# EAGLE library part LTC6088HGNPBF (library Sonar)
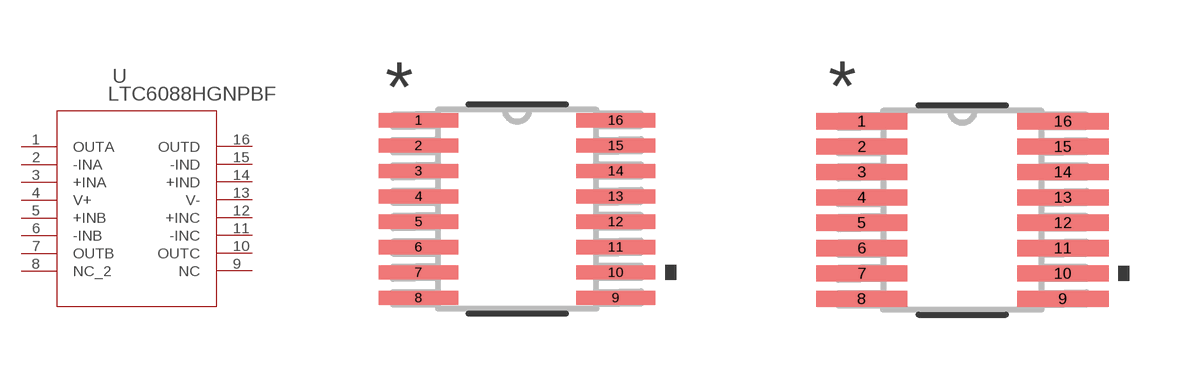
[diagram p0: symbol with the pads of SSOP-16_GN; footprints SSOP-16_GN, SSOP-16_GN-M]

Designator prefix U

## LTC6088HGNPBF (MANUFACTURER_PART_NUMBER: LTC6088HGN#PBF; VENDOR: Linear Technology)  [SSOP-16_GN]
1  OUTA  out
2  -INA  in
3  +INA  in
4  V+  pwr
5  +INB  in
6  -INB  in
7  OUTB  out
8  NC_2  nc
9  NC  nc
10  OUTC  out
11  -INC  in
12  +INC  in
13  V-  pwr
14  +IND  in
15  -IND  in
16  OUTD  out

## LTC6088HGNPBFSSOP-16_GN-M (MANUFACTURER_PART_NUMBER: LTC6088HGN#PBF; VENDOR: Linear Technology)  [SSOP-16_GN-M]
Pads as for SSOP-16_GN

## LTC6088HGNPBFSSOP-16_GN-L (MANUFACTURER_PART_NUMBER: LTC6088HGN#PBF; VENDOR: Linear Technology)  [SSOP-16_GN-L]
Pads as for SSOP-16_GN

## Footprint SSOP-16_GN (pad centres in mm)
smd 1.981 x 0.356: 1 -2.464,2.223; 2 -2.464,1.587; 3 -2.464,0.953; 4 -2.464,0.318; 5 -2.464,-0.318; 6 -2.464,-0.953; 7 -2.464,-1.587; 8 -2.464,-2.223; 9 2.464,-2.223; 10 2.464,-1.587; 11 2.464,-0.953; 12 2.464,-0.318; 13 2.464,0.318; 14 2.464,0.953; 15 2.464,1.587; 16 2.464,2.223

## Footprint SSOP-16_GN-M (pad centres in mm)
smd 2.286 x 0.406: 1 -2.515,2.223; 2 -2.515,1.587; 3 -2.515,0.953; 4 -2.515,0.318; 5 -2.515,-0.318; 6 -2.515,-0.953; 7 -2.515,-1.587; 8 -2.515,-2.223; 9 2.515,-2.223; 10 2.515,-1.587; 11 2.515,-0.953; 12 2.515,-0.318; 13 2.515,0.318; 14 2.515,0.953; 15 2.515,1.587; 16 2.515,2.223

## Footprint SSOP-16_GN-L (pad centres in mm)
smd 1.676 x 0.305: 1 -2.413,2.223; 2 -2.413,1.587; 3 -2.413,0.953; 4 -2.413,0.318; 5 -2.413,-0.318; 6 -2.413,-0.953; 7 -2.413,-1.587; 8 -2.413,-2.223; 9 2.413,-2.223; 10 2.413,-1.587; 11 2.413,-0.953; 12 2.413,-0.318; 13 2.413,0.318; 14 2.413,0.953; 15 2.413,1.587; 16 2.413,2.223